# Altium schematic symbol library Maxim Amplifiers and Comparators.SchLib: 420 symbols (part 16 of 16)
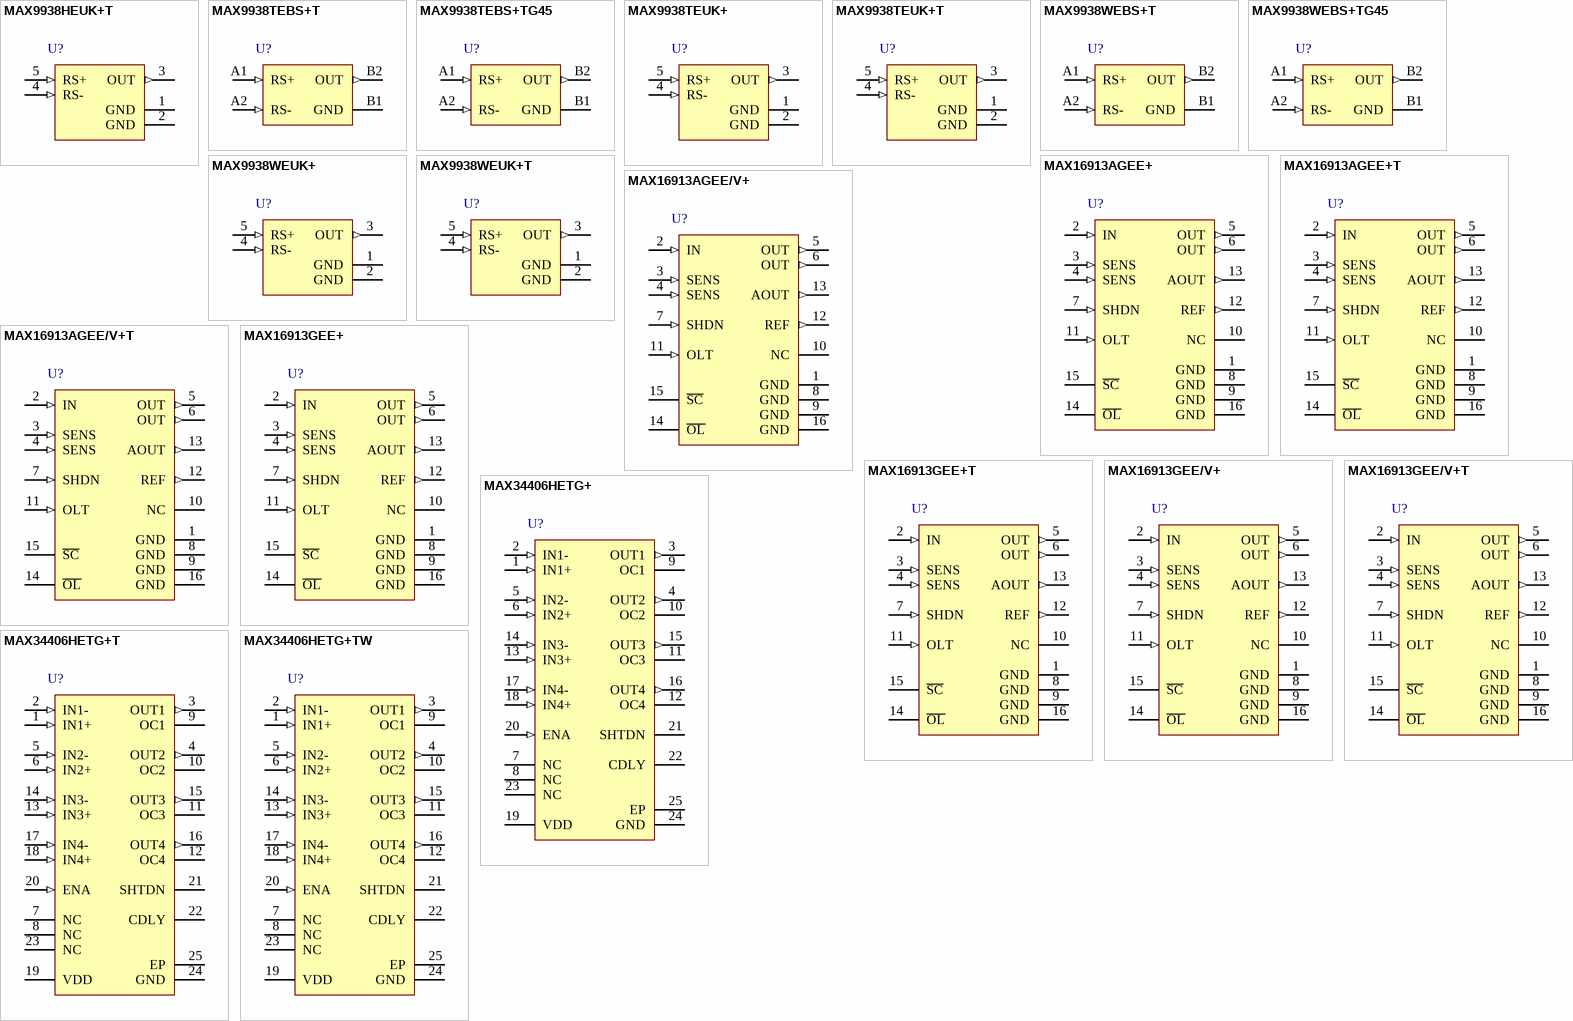
[diagram p25: symbols MAX9938HEUK+T to MAX34406HETG+TW]

## MAX9938HEUK+T
designator U?
1 uA, 4-Bump, Precision Current-Sense Amplifier, 100 V / V Gain, -40 to 85 degC, 5-Pin SOT23 (U5+2), Pb-Free, Tape and Reel; PartNumber: MAX9938HEUK+T; Bi-Dir. Curr. Sense: No; Gain: 25 V/V, 50 V/V ,100 V/V ,200 V/V; DatasheetVersion: Rev. 6; PackageVersion: Rev. G, 04/2011; PackageReference: U5+2; PackageDescription: 5-Pin Small-Outline Transistor Package, Body 1.625 x 2.9 mm, Pitch 0.95 mm; Supplier 1: Digi-Key; Supplier Part Number 1: MAX9938HEUK+TTR-ND; Supplier 2: Digi-Key; Supplier Part Number 2: MAX9938HEUK+TCT-ND; Supplier 3: Digi-Key; Supplier Part Number 3: MAX9938HEUK+TDKR-ND; Supplier 4: Mouser; Supplier Part Number 4: 700-MAX9938HEUK+T; Mounting Technology: Surface Mount; Code_JEDEC: MO178; ComponentLink1Description: Manufacturer URL; ComponentLink1URL: http://www.maximintegrated.com/; ComponentLink2Description: Datasheet; ComponentLink2URL: http://datasheets.maximintegrated.com/en/ds/MAX9938.pdf; ComponentLink3Description: Package Specification; ComponentLink3URL: http://pdfserv.maximintegrated.com/package_dwgs/21-0057.PDF
footprint MAXM-U5+2_N (SOT23, 5-Leads, Body 2.9x1.625mm, Pitch 0.95mm, IPC Medium Density)
footprint MAXM-U5+2_L (SOT23, 5-Leads, Body 2.9x1.625mm, Pitch 0.95mm, IPC High Density)
footprint MAXM-U5+2_M (SOT23, 5-Leads, Body 2.9x1.625mm, Pitch 0.95mm, IPC Low Density)
pins: 1 GND (power) "Ground", 2 GND (power) "Ground", 3 OUT (out) "Output", 4 RS- (in) "Load- Side Connection to External Sense Resistor", 5 RS+ (in) "Power-Side Connection to External Sense Resistor"

## MAX9938TEBS+T
designator U?
1 uA, 4-Bump, Precision Current-Sense Amplifier, 25 V / V Gain, -40 to 85 degC, 4-Pin BGA (B4+1), Pb-Free, Tape and Reel; PartNumber: MAX9938TEBS+T; Bi-Dir. Curr. Sense: No; Gain: 25 V/V, 50 V/V ,100 V/V ,200 V/V; DatasheetVersion: Rev. 6; PackageVersion: Rev. I, 03/2011; PackageReference: B4+1; PackageDescription: 4-Pin Ultra Chip-Scale Package, Body 1 x 1 mm, Pitch 0.5 mm; Supplier 1: Digi-Key; Supplier Part Number 1: MAX9938TEBS+T-ND; Supplier 2: Newark; Supplier Part Number 2: 01N6736; Supplier 3: Mouser; Supplier Part Number 3: 700-MAX9938TEBS+T; Mounting Technology: Surface Mount; ComponentLink1Description: Manufacturer URL; ComponentLink1URL: http://www.maximintegrated.com/; ComponentLink2Description: Datasheet; ComponentLink2URL: http://datasheets.maximintegrated.com/en/ds/MAX9938.pdf; ComponentLink3Description: Package Specification; ComponentLink3URL: http://pdfserv.maximintegrated.com/package_dwgs/21-0117.PDF
footprint MAXM-B4+1 (BGA, 4-Balls, Body 1x1mm, Pitch 0.5mm)
pins: A1 RS+ (in) "External Sense Resistor Power-Side Connection", A2 RS- (in) "External Sense Resistor Load-Side Connection", B1 GND (power) "Ground", B2 OUT (out) "Output Voltage. VOUT is proportional to VSENSE = VRS+ - VRS-."

## MAX9938TEBS+TG45
designator U?
1 uA, 4-Bump, Precision Current-Sense Amplifier, 25 V / V Gain, -40 to 85 degC, 4-Pin BGA (B4+1), Pb-Free, Tape and Reel; PartNumber: MAX9938TEBS+TG45; Bi-Dir. Curr. Sense: No; Gain: 25 V/V, 50 V/V ,100 V/V ,200 V/V; DatasheetVersion: Rev. 6; PackageVersion: Rev. I, 03/2011; PackageReference: B4+1; PackageDescription: 4-Pin Ultra Chip-Scale Package, Body 1 x 1 mm, Pitch 0.5 mm; Supplier 1: Digi-Key; Supplier Part Number 1: MAX9938TEBS+TG45-ND; Supplier 2: Mouser; Supplier Part Number 2: 700-MAX9938TEBS+TG45; Mounting Technology: Surface Mount; ComponentLink1Description: Manufacturer URL; ComponentLink1URL: http://www.maximintegrated.com/; ComponentLink2Description: Datasheet; ComponentLink2URL: http://datasheets.maximintegrated.com/en/ds/MAX9938.pdf; ComponentLink3Description: Package Specification; ComponentLink3URL: http://pdfserv.maximintegrated.com/package_dwgs/21-0117.PDF
footprint MAXM-B4+1 (BGA, 4-Balls, Body 1x1mm, Pitch 0.5mm)
pins: A1 RS+ (in) "External Sense Resistor Power-Side Connection", A2 RS- (in) "External Sense Resistor Load-Side Connection", B1 GND (power) "Ground", B2 OUT (out) "Output Voltage. VOUT is proportional to VSENSE = VRS+ - VRS-."

## MAX9938TEUK+
designator U?
1 uA, 4-Bump, Precision Current-Sense Amplifier, 25 V / V Gain, -40 to 85 degC, 5-Pin SOT23 (U5+2), Pb-Free; PartNumber: MAX9938TEUK+; Bi-Dir. Curr. Sense: No; Gain: 25 V/V, 50 V/V ,100 V/V ,200 V/V; DatasheetVersion: Rev. 6; PackageVersion: Rev. G, 04/2011; PackageReference: U5+2; PackageDescription: 5-Pin Small-Outline Transistor Package, Body 1.625 x 2.9 mm, Pitch 0.95 mm; Supplier 1: Mouser; Supplier Part Number 1: N/A; Mounting Technology: Surface Mount; Code_JEDEC: MO178; ComponentLink1Description: Manufacturer URL; ComponentLink1URL: http://www.maximintegrated.com/; ComponentLink2Description: Datasheet; ComponentLink2URL: http://datasheets.maximintegrated.com/en/ds/MAX9938.pdf; ComponentLink3Description: Package Specification; ComponentLink3URL: http://pdfserv.maximintegrated.com/package_dwgs/21-0057.PDF
footprint MAXM-U5+2_N (SOT23, 5-Leads, Body 2.9x1.625mm, Pitch 0.95mm, IPC Medium Density)
footprint MAXM-U5+2_L (SOT23, 5-Leads, Body 2.9x1.625mm, Pitch 0.95mm, IPC High Density)
footprint MAXM-U5+2_M (SOT23, 5-Leads, Body 2.9x1.625mm, Pitch 0.95mm, IPC Low Density)
pins: 1 GND (power) "Ground", 2 GND (power) "Ground", 3 OUT (out) "Output", 4 RS- (in) "Load- Side Connection to External Sense Resistor", 5 RS+ (in) "Power-Side Connection to External Sense Resistor"

## MAX9938TEUK+T
designator U?
1 uA, 4-Bump, Precision Current-Sense Amplifier, 25 V / V Gain, -40 to 85 degC, 5-Pin SOT23 (U5+2), Pb-Free, Tape and Reel; PartNumber: MAX9938TEUK+T; Bi-Dir. Curr. Sense: No; Gain: 25 V/V, 50 V/V ,100 V/V ,200 V/V; DatasheetVersion: Rev. 6; PackageVersion: Rev. G, 04/2011; PackageReference: U5+2; PackageDescription: 5-Pin Small-Outline Transistor Package, Body 1.625 x 2.9 mm, Pitch 0.95 mm; Supplier 1: Digi-Key; Supplier Part Number 1: MAX9938TEUK+TTR-ND; Supplier 2: Digi-Key; Supplier Part Number 2: MAX9938TEUK+TCT-ND; Supplier 3: Digi-Key; Supplier Part Number 3: MAX9938TEUK+TDKR-ND; Supplier 4: Mouser; Supplier Part Number 4: 700-MAX9938TEUK+T; Mounting Technology: Surface Mount; Code_JEDEC: MO178; ComponentLink1Description: Manufacturer URL; ComponentLink1URL: http://www.maximintegrated.com/; ComponentLink2Description: Datasheet; ComponentLink2URL: http://datasheets.maximintegrated.com/en/ds/MAX9938.pdf; ComponentLink3Description: Package Specification; ComponentLink3URL: http://pdfserv.maximintegrated.com/package_dwgs/21-0057.PDF
footprint MAXM-U5+2_N (SOT23, 5-Leads, Body 2.9x1.625mm, Pitch 0.95mm, IPC Medium Density)
footprint MAXM-U5+2_L (SOT23, 5-Leads, Body 2.9x1.625mm, Pitch 0.95mm, IPC High Density)
footprint MAXM-U5+2_M (SOT23, 5-Leads, Body 2.9x1.625mm, Pitch 0.95mm, IPC Low Density)
pins: 1 GND (power) "Ground", 2 GND (power) "Ground", 3 OUT (out) "Output", 4 RS- (in) "Load- Side Connection to External Sense Resistor", 5 RS+ (in) "Power-Side Connection to External Sense Resistor"

## MAX9938WEBS+T
designator U?
1 uA, 4-Bump, Precision Current-Sense Amplifier, 200 V / V Gain, -40 to 85 degC, 4-Pin BGA (B4+1), Pb-Free, Tape and Reel; PartNumber: MAX9938WEBS+T; Bi-Dir. Curr. Sense: No; Gain: 25 V/V, 50 V/V ,100 V/V ,200 V/V; DatasheetVersion: Rev. 6; PackageVersion: Rev. I, 03/2011; PackageReference: B4+1; PackageDescription: 4-Pin Ultra Chip-Scale Package, Body 1 x 1 mm, Pitch 0.5 mm; Supplier 1: Mouser; Supplier Part Number 1: N/A; Mounting Technology: Surface Mount; ComponentLink1Description: Manufacturer URL; ComponentLink1URL: http://www.maximintegrated.com/; ComponentLink2Description: Datasheet; ComponentLink2URL: http://datasheets.maximintegrated.com/en/ds/MAX9938.pdf; ComponentLink3Description: Package Specification; ComponentLink3URL: http://pdfserv.maximintegrated.com/package_dwgs/21-0117.PDF
footprint MAXM-B4+1 (BGA, 4-Balls, Body 1x1mm, Pitch 0.5mm)
pins: A1 RS+ (in) "External Sense Resistor Power-Side Connection", A2 RS- (in) "External Sense Resistor Load-Side Connection", B1 GND (power) "Ground", B2 OUT (out) "Output Voltage. VOUT is proportional to VSENSE = VRS+ - VRS-."

## MAX9938WEBS+TG45
designator U?
1 uA, 4-Bump, Precision Current-Sense Amplifier, 200 V / V Gain, -40 to 85 degC, 4-Pin BGA (B4+1), Pb-Free, Tape and Reel; PartNumber: MAX9938WEBS+TG45; Bi-Dir. Curr. Sense: No; Gain: 25 V/V, 50 V/V ,100 V/V ,200 V/V; DatasheetVersion: Rev. 6; PackageVersion: Rev. I, 03/2011; PackageReference: B4+1; PackageDescription: 4-Pin Ultra Chip-Scale Package, Body 1 x 1 mm, Pitch 0.5 mm; Supplier 1: Mouser; Supplier Part Number 1: N/A; Mounting Technology: Surface Mount; ComponentLink1Description: Manufacturer URL; ComponentLink1URL: http://www.maximintegrated.com/; ComponentLink2Description: Datasheet; ComponentLink2URL: http://datasheets.maximintegrated.com/en/ds/MAX9938.pdf; ComponentLink3Description: Package Specification; ComponentLink3URL: http://pdfserv.maximintegrated.com/package_dwgs/21-0117.PDF
footprint MAXM-B4+1 (BGA, 4-Balls, Body 1x1mm, Pitch 0.5mm)
pins: A1 RS+ (in) "External Sense Resistor Power-Side Connection", A2 RS- (in) "External Sense Resistor Load-Side Connection", B1 GND (power) "Ground", B2 OUT (out) "Output Voltage. VOUT is proportional to VSENSE = VRS+ - VRS-."

## MAX9938WEUK+
designator U?
1 uA, 4-Bump, Precision Current-Sense Amplifier, 200 V / V Gain, -40 to 85 degC, 5-Pin SOT23 (U5+2), Pb-Free; PartNumber: MAX9938WEUK+; Bi-Dir. Curr. Sense: No; Gain: 25 V/V, 50 V/V ,100 V/V ,200 V/V; DatasheetVersion: Rev. 6; PackageVersion: Rev. G, 04/2011; PackageReference: U5+2; PackageDescription: 5-Pin Small-Outline Transistor Package, Body 1.625 x 2.9 mm, Pitch 0.95 mm; Supplier 1: Mouser; Supplier Part Number 1: N/A; Mounting Technology: Surface Mount; Code_JEDEC: MO178; ComponentLink1Description: Manufacturer URL; ComponentLink1URL: http://www.maximintegrated.com/; ComponentLink2Description: Datasheet; ComponentLink2URL: http://datasheets.maximintegrated.com/en/ds/MAX9938.pdf; ComponentLink3Description: Package Specification; ComponentLink3URL: http://pdfserv.maximintegrated.com/package_dwgs/21-0057.PDF
footprint MAXM-U5+2_N (SOT23, 5-Leads, Body 2.9x1.625mm, Pitch 0.95mm, IPC Medium Density)
footprint MAXM-U5+2_L (SOT23, 5-Leads, Body 2.9x1.625mm, Pitch 0.95mm, IPC High Density)
footprint MAXM-U5+2_M (SOT23, 5-Leads, Body 2.9x1.625mm, Pitch 0.95mm, IPC Low Density)
pins: 1 GND (power) "Ground", 2 GND (power) "Ground", 3 OUT (out) "Output", 4 RS- (in) "Load- Side Connection to External Sense Resistor", 5 RS+ (in) "Power-Side Connection to External Sense Resistor"

## MAX9938WEUK+T
designator U?
1 uA, 4-Bump, Precision Current-Sense Amplifier, 200 V / V Gain, -40 to 85 degC, 5-Pin SOT23 (U5+2), Pb-Free, Tape and Reel; PartNumber: MAX9938WEUK+T; Bi-Dir. Curr. Sense: No; Gain: 25 V/V, 50 V/V ,100 V/V ,200 V/V; DatasheetVersion: Rev. 6; PackageVersion: Rev. G, 04/2011; PackageReference: U5+2; PackageDescription: 5-Pin Small-Outline Transistor Package, Body 1.625 x 2.9 mm, Pitch 0.95 mm; Supplier 1: Digi-Key; Supplier Part Number 1: MAX9938WEUK+T-ND; Supplier 2: Mouser; Supplier Part Number 2: 700-MAX9938WEUK+T; Mounting Technology: Surface Mount; Code_JEDEC: MO178; ComponentLink1Description: Manufacturer URL; ComponentLink1URL: http://www.maximintegrated.com/; ComponentLink2Description: Datasheet; ComponentLink2URL: http://datasheets.maximintegrated.com/en/ds/MAX9938.pdf; ComponentLink3Description: Package Specification; ComponentLink3URL: http://pdfserv.maximintegrated.com/package_dwgs/21-0057.PDF
footprint MAXM-U5+2_N (SOT23, 5-Leads, Body 2.9x1.625mm, Pitch 0.95mm, IPC Medium Density)
footprint MAXM-U5+2_L (SOT23, 5-Leads, Body 2.9x1.625mm, Pitch 0.95mm, IPC High Density)
footprint MAXM-U5+2_M (SOT23, 5-Leads, Body 2.9x1.625mm, Pitch 0.95mm, IPC Low Density)
pins: 1 GND (power) "Ground", 2 GND (power) "Ground", 3 OUT (out) "Output", 4 RS- (in) "Load- Side Connection to External Sense Resistor", 5 RS+ (in) "Power-Side Connection to External Sense Resistor"

## MAX16913AGEE+
designator U?
Remote Antenna Current-Sense Amplifier and Switch, 13 V / V Gain, -40 to 105 degC, 16-Pin SOP (E16+8F), Pb-Free; PartNumber: MAX16913AGEE+; Bi-Dir. Curr. Sense: No; Gain: 13 V/V; Industry Qualified: Automotive - AECQ100, Automotive - General; DatasheetVersion: Rev. 0; PackageVersion: Rev. K, 04/2012; PackageReference: E16+8F; PackageDescription: 16-Pin Quarter Small-Outline Package, Body 3.9 x 4.89 mm, Pitch 0.635 mm; Supplier 1: Digi-Key; Supplier Part Number 1: MAX16913AGEE+-ND; Supplier 2: Mouser; Supplier Part Number 2: N/A; Mounting Technology: Surface Mount; Code_JEDEC: MO-137; ComponentLink1Description: Manufacturer URL; ComponentLink1URL: http://www.maximintegrated.com/; ComponentLink2Description: Datasheet; ComponentLink2URL: http://datasheets.maximintegrated.com/en/ds/MAX16913-MAX16913A.pdf; ComponentLink3Description: Package Specification; ComponentLink3URL: http://pdfserv.maximintegrated.com/package_dwgs/21-0055.PDF
footprint MAXM-E16+8F_N (SOP, 16-Leads, Body 4.89x3.9mm, Pitch 0.635mm, IPC Medium Density)
footprint MAXM-E16+8F_L (SOP, 16-Leads, Body 4.89x3.9mm, Pitch 0.635mm, IPC High Density)
footprint MAXM-E16+8F_M (SOP, 16-Leads, Body 4.89x3.9mm, Pitch 0.635mm, IPC Low Density)
pins: 1 GND (power) "Ground", 2 IN (in) "Input Voltage. Bypass IN to GND with a low-ESR ceramic capacitor with a minimum value of 0.1uF.", 3 SENS (in) "Input to Current-Sense Amplifier. Connect the sense resistor between SENS and IN.", 4 SENS (in) "Input to Current-Sense Amplifier. Connect the sense resistor between SENS and IN.", 5 OUT (out) "Switch Output", 6 OUT (out) "Switch Output", 7 SHDN (in) "Active-High Control Input. Drive SHDN low to turn on the device.", 8 GND (power) "Ground", 9 GND (power) "Ground", 10 NC "No Connection. Not internally connected.", 11 OLT (in) "Open-Load Threshold Setting Input. A resistive divider between REF, OLT, and GND sets the open-load current threshold (MAX16913A). For the MAX16913, connect OLT to GND.", 12 REF (out) "+3V Nominal Reference Output. Use a resistive divider between REF, OLT, and ground to set the open-load current threshold (MAX16913A). The output impedance of this voltage regulator is 5k ohm.", 13 AOUT (out) "Current-Monitor Voltage Output. AOUT can be used to measure the load current by means of an external ADC. The output impedance is 5k ohm.", 14 ~{OL} (oc) "Open-Drain Open-Load Indicator Output. O\L\ goes low when the load current is lower than the open-load current threshold, or when there is a short-to-battery fault. Connect O\L\ to a 10k ohm pullup resistor. See Table 1.", 15 ~{SC} (oc) "Open-Drain Short-Circuit Indicator Output. S\C\ goes low when the load current is greater than the short-circuit current threshold or when there is a short-to-battery fault. Connect S\C\ to a 10k ohm pullup resistor. See (See Datasheet)", 16 GND (power) "Ground"

## MAX16913AGEE+T
designator U?
Remote Antenna Current-Sense Amplifier and Switch, 13 V / V Gain, -40 to 105 degC, 16-Pin SOP (E16+8F), Pb-Free, Tape and Reel; PartNumber: MAX16913AGEE+T; Bi-Dir. Curr. Sense: No; Gain: 13 V/V; Industry Qualified: Automotive - AECQ100, Automotive - General; DatasheetVersion: Rev. 0; PackageVersion: Rev. K, 04/2012; PackageReference: E16+8F; PackageDescription: 16-Pin Quarter Small-Outline Package, Body 3.9 x 4.89 mm, Pitch 0.635 mm; Supplier 1: Digi-Key; Supplier Part Number 1: MAX16913AGEE+T-ND; Supplier 2: Mouser; Supplier Part Number 2: N/A; Mounting Technology: Surface Mount; Code_JEDEC: MO-137; ComponentLink1Description: Manufacturer URL; ComponentLink1URL: http://www.maximintegrated.com/; ComponentLink2Description: Datasheet; ComponentLink2URL: http://datasheets.maximintegrated.com/en/ds/MAX16913-MAX16913A.pdf; ComponentLink3Description: Package Specification; ComponentLink3URL: http://pdfserv.maximintegrated.com/package_dwgs/21-0055.PDF
footprint MAXM-E16+8F_N (SOP, 16-Leads, Body 4.89x3.9mm, Pitch 0.635mm, IPC Medium Density)
footprint MAXM-E16+8F_L (SOP, 16-Leads, Body 4.89x3.9mm, Pitch 0.635mm, IPC High Density)
footprint MAXM-E16+8F_M (SOP, 16-Leads, Body 4.89x3.9mm, Pitch 0.635mm, IPC Low Density)
pins: 1 GND (power) "Ground", 2 IN (in) "Input Voltage. Bypass IN to GND with a low-ESR ceramic capacitor with a minimum value of 0.1uF.", 3 SENS (in) "Input to Current-Sense Amplifier. Connect the sense resistor between SENS and IN.", 4 SENS (in) "Input to Current-Sense Amplifier. Connect the sense resistor between SENS and IN.", 5 OUT (out) "Switch Output", 6 OUT (out) "Switch Output", 7 SHDN (in) "Active-High Control Input. Drive SHDN low to turn on the device.", 8 GND (power) "Ground", 9 GND (power) "Ground", 10 NC "No Connection. Not internally connected.", 11 OLT (in) "Open-Load Threshold Setting Input. A resistive divider between REF, OLT, and GND sets the open-load current threshold (MAX16913A). For the MAX16913, connect OLT to GND.", 12 REF (out) "+3V Nominal Reference Output. Use a resistive divider between REF, OLT, and ground to set the open-load current threshold (MAX16913A). The output impedance of this voltage regulator is 5k ohm.", 13 AOUT (out) "Current-Monitor Voltage Output. AOUT can be used to measure the load current by means of an external ADC. The output impedance is 5k ohm.", 14 ~{OL} (oc) "Open-Drain Open-Load Indicator Output. O\L\ goes low when the load current is lower than the open-load current threshold, or when there is a short-to-battery fault. Connect O\L\ to a 10k ohm pullup resistor. See Table 1.", 15 ~{SC} (oc) "Open-Drain Short-Circuit Indicator Output. S\C\ goes low when the load current is greater than the short-circuit current threshold or when there is a short-to-battery fault. Connect S\C\ to a 10k ohm pullup resistor. See (See Datasheet)", 16 GND (power) "Ground"

## MAX16913AGEE/V+
designator U?
Remote Antenna Current-Sense Amplifier and Switch, 13 V / V Gain, -40 to 105 degC, 16-Pin SOP (E16+8F), Pb-Free; PartNumber: MAX16913AGEE/V+; Bi-Dir. Curr. Sense: No; Gain: 13 V/V; Industry Qualified: Automotive - AECQ100, Automotive - General; DatasheetVersion: Rev. 0; PackageVersion: Rev. K, 04/2012; PackageReference: E16+8F; PackageDescription: 16-Pin Quarter Small-Outline Package, Body 3.9 x 4.89 mm, Pitch 0.635 mm; Supplier 1: Digi-Key; Supplier Part Number 1: MAX16913AGEE/V+-ND; Supplier 2: Farnell; Supplier Part Number 2: 1813102; Supplier 3: Mouser; Supplier Part Number 3: 700-MAX16913AGEEV; Mounting Technology: Surface Mount; Code_JEDEC: MO-137; ComponentLink1Description: Manufacturer URL; ComponentLink1URL: http://www.maximintegrated.com/; ComponentLink2Description: Datasheet; ComponentLink2URL: http://datasheets.maximintegrated.com/en/ds/MAX16913-MAX16913A.pdf; ComponentLink3Description: Package Specification; ComponentLink3URL: http://pdfserv.maximintegrated.com/package_dwgs/21-0055.PDF
footprint MAXM-E16+8F_N (SOP, 16-Leads, Body 4.89x3.9mm, Pitch 0.635mm, IPC Medium Density)
footprint MAXM-E16+8F_L (SOP, 16-Leads, Body 4.89x3.9mm, Pitch 0.635mm, IPC High Density)
footprint MAXM-E16+8F_M (SOP, 16-Leads, Body 4.89x3.9mm, Pitch 0.635mm, IPC Low Density)
pins: 1 GND (power) "Ground", 2 IN (in) "Input Voltage. Bypass IN to GND with a low-ESR ceramic capacitor with a minimum value of 0.1uF.", 3 SENS (in) "Input to Current-Sense Amplifier. Connect the sense resistor between SENS and IN.", 4 SENS (in) "Input to Current-Sense Amplifier. Connect the sense resistor between SENS and IN.", 5 OUT (out) "Switch Output", 6 OUT (out) "Switch Output", 7 SHDN (in) "Active-High Control Input. Drive SHDN low to turn on the device.", 8 GND (power) "Ground", 9 GND (power) "Ground", 10 NC "No Connection. Not internally connected.", 11 OLT (in) "Open-Load Threshold Setting Input. A resistive divider between REF, OLT, and GND sets the open-load current threshold (MAX16913A). For the MAX16913, connect OLT to GND.", 12 REF (out) "+3V Nominal Reference Output. Use a resistive divider between REF, OLT, and ground to set the open-load current threshold (MAX16913A). The output impedance of this voltage regulator is 5k ohm.", 13 AOUT (out) "Current-Monitor Voltage Output. AOUT can be used to measure the load current by means of an external ADC. The output impedance is 5k ohm.", 14 ~{OL} (oc) "Open-Drain Open-Load Indicator Output. O\L\ goes low when the load current is lower than the open-load current threshold, or when there is a short-to-battery fault. Connect O\L\ to a 10k ohm pullup resistor. See Table 1.", 15 ~{SC} (oc) "Open-Drain Short-Circuit Indicator Output. S\C\ goes low when the load current is greater than the short-circuit current threshold or when there is a short-to-battery fault. Connect S\C\ to a 10k ohm pullup resistor. See (See Datasheet)", 16 GND (power) "Ground"

## MAX16913AGEE/V+T
designator U?
Remote Antenna Current-Sense Amplifier and Switch, 13 V / V Gain, -40 to 105 degC, 16-Pin SOP (E16+8F), Pb-Free, Tape and Reel; PartNumber: MAX16913AGEE/V+T; Bi-Dir. Curr. Sense: No; Gain: 13 V/V; Industry Qualified: Automotive - AECQ100, Automotive - General; DatasheetVersion: Rev. 0; PackageVersion: Rev. K, 04/2012; PackageReference: E16+8F; PackageDescription: 16-Pin Quarter Small-Outline Package, Body 3.9 x 4.89 mm, Pitch 0.635 mm; Supplier 1: Digi-Key; Supplier Part Number 1: MAX16913AGEE/V+T-ND; Supplier 2: Mouser; Supplier Part Number 2: 700-MAX16913AGEE/V+T; Mounting Technology: Surface Mount; Code_JEDEC: MO-137; ComponentLink1Description: Manufacturer URL; ComponentLink1URL: http://www.maximintegrated.com/; ComponentLink2Description: Datasheet; ComponentLink2URL: http://datasheets.maximintegrated.com/en/ds/MAX16913-MAX16913A.pdf; ComponentLink3Description: Package Specification; ComponentLink3URL: http://pdfserv.maximintegrated.com/package_dwgs/21-0055.PDF
footprint MAXM-E16+8F_N (SOP, 16-Leads, Body 4.89x3.9mm, Pitch 0.635mm, IPC Medium Density)
footprint MAXM-E16+8F_L (SOP, 16-Leads, Body 4.89x3.9mm, Pitch 0.635mm, IPC High Density)
footprint MAXM-E16+8F_M (SOP, 16-Leads, Body 4.89x3.9mm, Pitch 0.635mm, IPC Low Density)
pins: 1 GND (power) "Ground", 2 IN (in) "Input Voltage. Bypass IN to GND with a low-ESR ceramic capacitor with a minimum value of 0.1uF.", 3 SENS (in) "Input to Current-Sense Amplifier. Connect the sense resistor between SENS and IN.", 4 SENS (in) "Input to Current-Sense Amplifier. Connect the sense resistor between SENS and IN.", 5 OUT (out) "Switch Output", 6 OUT (out) "Switch Output", 7 SHDN (in) "Active-High Control Input. Drive SHDN low to turn on the device.", 8 GND (power) "Ground", 9 GND (power) "Ground", 10 NC "No Connection. Not internally connected.", 11 OLT (in) "Open-Load Threshold Setting Input. A resistive divider between REF, OLT, and GND sets the open-load current threshold (MAX16913A). For the MAX16913, connect OLT to GND.", 12 REF (out) "+3V Nominal Reference Output. Use a resistive divider between REF, OLT, and ground to set the open-load current threshold (MAX16913A). The output impedance of this voltage regulator is 5k ohm.", 13 AOUT (out) "Current-Monitor Voltage Output. AOUT can be used to measure the load current by means of an external ADC. The output impedance is 5k ohm.", 14 ~{OL} (oc) "Open-Drain Open-Load Indicator Output. O\L\ goes low when the load current is lower than the open-load current threshold, or when there is a short-to-battery fault. Connect O\L\ to a 10k ohm pullup resistor. See Table 1.", 15 ~{SC} (oc) "Open-Drain Short-Circuit Indicator Output. S\C\ goes low when the load current is greater than the short-circuit current threshold or when there is a short-to-battery fault. Connect S\C\ to a 10k ohm pullup resistor. See (See Datasheet)", 16 GND (power) "Ground"

## MAX16913GEE+
designator U?
Remote Antenna Current-Sense Amplifier and Switch, 13 V / V Gain, -40 to 105 degC, 16-Pin SOP (E16+8F), Pb-Free; PartNumber: MAX16913GEE+; Bi-Dir. Curr. Sense: No; Gain: 13 V/V; Industry Qualified: Automotive - AECQ100, Automotive - General; DatasheetVersion: Rev. 0; PackageVersion: Rev. K, 04/2012; PackageReference: E16+8F; PackageDescription: 16-Pin Quarter Small-Outline Package, Body 3.9 x 4.89 mm, Pitch 0.635 mm; Supplier 1: Digi-Key; Supplier Part Number 1: MAX16913GEE+-ND; Supplier 2: Mouser; Supplier Part Number 2: N/A; Mounting Technology: Surface Mount; Code_JEDEC: MO-137; ComponentLink1Description: Manufacturer URL; ComponentLink1URL: http://www.maximintegrated.com/; ComponentLink2Description: Datasheet; ComponentLink2URL: http://datasheets.maximintegrated.com/en/ds/MAX16913-MAX16913A.pdf; ComponentLink3Description: Package Specification; ComponentLink3URL: http://pdfserv.maximintegrated.com/package_dwgs/21-0055.PDF
footprint MAXM-E16+8F_N (SOP, 16-Leads, Body 4.89x3.9mm, Pitch 0.635mm, IPC Medium Density)
footprint MAXM-E16+8F_L (SOP, 16-Leads, Body 4.89x3.9mm, Pitch 0.635mm, IPC High Density)
footprint MAXM-E16+8F_M (SOP, 16-Leads, Body 4.89x3.9mm, Pitch 0.635mm, IPC Low Density)
pins: 1 GND (power) "Ground", 2 IN (in) "Input Voltage. Bypass IN to GND with a low-ESR ceramic capacitor with a minimum value of 0.1uF.", 3 SENS (in) "Input to Current-Sense Amplifier. Connect the sense resistor between SENS and IN.", 4 SENS (in) "Input to Current-Sense Amplifier. Connect the sense resistor between SENS and IN.", 5 OUT (out) "Switch Output", 6 OUT (out) "Switch Output", 7 SHDN (in) "Active-High Control Input. Drive SHDN low to turn on the device.", 8 GND (power) "Ground", 9 GND (power) "Ground", 10 NC "No Connection. Not internally connected.", 11 OLT (in) "Open-Load Threshold Setting Input. A resistive divider between REF, OLT, and GND sets the open-load current threshold (MAX16913A). For the MAX16913, connect OLT to GND.", 12 REF (out) "+3V Nominal Reference Output. Use a resistive divider between REF, OLT, and ground to set the open-load current threshold (MAX16913A). The output impedance of this voltage regulator is 5k ohm.", 13 AOUT (out) "Current-Monitor Voltage Output. AOUT can be used to measure the load current by means of an external ADC. The output impedance is 5k ohm.", 14 ~{OL} (oc) "Open-Drain Open-Load Indicator Output. O\L\ goes low when the load current is lower than the open-load current threshold, or when there is a short-to-battery fault. Connect O\L\ to a 10k ohm pullup resistor. See Table 1.", 15 ~{SC} (oc) "Open-Drain Short-Circuit Indicator Output. S\C\ goes low when the load current is greater than the short-circuit current threshold or when there is a short-to-battery fault. Connect S\C\ to a 10k ohm pullup resistor. See (See Datasheet)", 16 GND (power) "Ground"

## MAX16913GEE+T
designator U?
Remote Antenna Current-Sense Amplifier and Switch, 13 V / V Gain, -40 to 105 degC, 16-Pin SOP (E16+8F), Pb-Free, Tape and Reel; PartNumber: MAX16913GEE+T; Bi-Dir. Curr. Sense: No; Gain: 13 V/V; Industry Qualified: Automotive - AECQ100, Automotive - General; DatasheetVersion: Rev. 0; PackageVersion: Rev. K, 04/2012; PackageReference: E16+8F; PackageDescription: 16-Pin Quarter Small-Outline Package, Body 3.9 x 4.89 mm, Pitch 0.635 mm; Supplier 1: Digi-Key; Supplier Part Number 1: MAX16913GEE+T-ND; Supplier 2: Mouser; Supplier Part Number 2: N/A; Mounting Technology: Surface Mount; Code_JEDEC: MO-137; ComponentLink1Description: Manufacturer URL; ComponentLink1URL: http://www.maximintegrated.com/; ComponentLink2Description: Datasheet; ComponentLink2URL: http://datasheets.maximintegrated.com/en/ds/MAX16913-MAX16913A.pdf; ComponentLink3Description: Package Specification; ComponentLink3URL: http://pdfserv.maximintegrated.com/package_dwgs/21-0055.PDF
footprint MAXM-E16+8F_N (SOP, 16-Leads, Body 4.89x3.9mm, Pitch 0.635mm, IPC Medium Density)
footprint MAXM-E16+8F_L (SOP, 16-Leads, Body 4.89x3.9mm, Pitch 0.635mm, IPC High Density)
footprint MAXM-E16+8F_M (SOP, 16-Leads, Body 4.89x3.9mm, Pitch 0.635mm, IPC Low Density)
pins: 1 GND (power) "Ground", 2 IN (in) "Input Voltage. Bypass IN to GND with a low-ESR ceramic capacitor with a minimum value of 0.1uF.", 3 SENS (in) "Input to Current-Sense Amplifier. Connect the sense resistor between SENS and IN.", 4 SENS (in) "Input to Current-Sense Amplifier. Connect the sense resistor between SENS and IN.", 5 OUT (out) "Switch Output", 6 OUT (out) "Switch Output", 7 SHDN (in) "Active-High Control Input. Drive SHDN low to turn on the device.", 8 GND (power) "Ground", 9 GND (power) "Ground", 10 NC "No Connection. Not internally connected.", 11 OLT (in) "Open-Load Threshold Setting Input. A resistive divider between REF, OLT, and GND sets the open-load current threshold (MAX16913A). For the MAX16913, connect OLT to GND.", 12 REF (out) "+3V Nominal Reference Output. Use a resistive divider between REF, OLT, and ground to set the open-load current threshold (MAX16913A). The output impedance of this voltage regulator is 5k ohm.", 13 AOUT (out) "Current-Monitor Voltage Output. AOUT can be used to measure the load current by means of an external ADC. The output impedance is 5k ohm.", 14 ~{OL} (oc) "Open-Drain Open-Load Indicator Output. O\L\ goes low when the load current is lower than the open-load current threshold, or when there is a short-to-battery fault. Connect O\L\ to a 10k ohm pullup resistor. See Table 1.", 15 ~{SC} (oc) "Open-Drain Short-Circuit Indicator Output. S\C\ goes low when the load current is greater than the short-circuit current threshold or when there is a short-to-battery fault. Connect S\C\ to a 10k ohm pullup resistor. See (See Datasheet)", 16 GND (power) "Ground"

## MAX16913GEE/V+
designator U?
Remote Antenna Current-Sense Amplifier and Switch, 13 V / V Gain, -40 to 105 degC, 16-Pin SOP (E16+8F), Pb-Free; PartNumber: MAX16913GEE/V+; Bi-Dir. Curr. Sense: No; Gain: 13 V/V; Industry Qualified: Automotive - AECQ100, Automotive - General; DatasheetVersion: Rev. 0; PackageVersion: Rev. K, 04/2012; PackageReference: E16+8F; PackageDescription: 16-Pin Quarter Small-Outline Package, Body 3.9 x 4.89 mm, Pitch 0.635 mm; Supplier 1: Digi-Key; Supplier Part Number 1: MAX16913GEE/V+-ND; Supplier 2: Farnell; Supplier Part Number 2: 1813103; Supplier 3: Mouser; Supplier Part Number 3: 700-MAX16913GEEV; Mounting Technology: Surface Mount; Code_JEDEC: MO-137; ComponentLink1Description: Manufacturer URL; ComponentLink1URL: http://www.maximintegrated.com/; ComponentLink2Description: Datasheet; ComponentLink2URL: http://datasheets.maximintegrated.com/en/ds/MAX16913-MAX16913A.pdf; ComponentLink3Description: Package Specification; ComponentLink3URL: http://pdfserv.maximintegrated.com/package_dwgs/21-0055.PDF
footprint MAXM-E16+8F_N (SOP, 16-Leads, Body 4.89x3.9mm, Pitch 0.635mm, IPC Medium Density)
footprint MAXM-E16+8F_L (SOP, 16-Leads, Body 4.89x3.9mm, Pitch 0.635mm, IPC High Density)
footprint MAXM-E16+8F_M (SOP, 16-Leads, Body 4.89x3.9mm, Pitch 0.635mm, IPC Low Density)
pins: 1 GND (power) "Ground", 2 IN (in) "Input Voltage. Bypass IN to GND with a low-ESR ceramic capacitor with a minimum value of 0.1uF.", 3 SENS (in) "Input to Current-Sense Amplifier. Connect the sense resistor between SENS and IN.", 4 SENS (in) "Input to Current-Sense Amplifier. Connect the sense resistor between SENS and IN.", 5 OUT (out) "Switch Output", 6 OUT (out) "Switch Output", 7 SHDN (in) "Active-High Control Input. Drive SHDN low to turn on the device.", 8 GND (power) "Ground", 9 GND (power) "Ground", 10 NC "No Connection. Not internally connected.", 11 OLT (in) "Open-Load Threshold Setting Input. A resistive divider between REF, OLT, and GND sets the open-load current threshold (MAX16913A). For the MAX16913, connect OLT to GND.", 12 REF (out) "+3V Nominal Reference Output. Use a resistive divider between REF, OLT, and ground to set the open-load current threshold (MAX16913A). The output impedance of this voltage regulator is 5k ohm.", 13 AOUT (out) "Current-Monitor Voltage Output. AOUT can be used to measure the load current by means of an external ADC. The output impedance is 5k ohm.", 14 ~{OL} (oc) "Open-Drain Open-Load Indicator Output. O\L\ goes low when the load current is lower than the open-load current threshold, or when there is a short-to-battery fault. Connect O\L\ to a 10k ohm pullup resistor. See Table 1.", 15 ~{SC} (oc) "Open-Drain Short-Circuit Indicator Output. S\C\ goes low when the load current is greater than the short-circuit current threshold or when there is a short-to-battery fault. Connect S\C\ to a 10k ohm pullup resistor. See (See Datasheet)", 16 GND (power) "Ground"

## MAX16913GEE/V+T
designator U?
Remote Antenna Current-Sense Amplifier and Switch, 13 V / V Gain, -40 to 105 degC, 16-Pin SOP (E16+8F), Pb-Free, Tape and Reel; PartNumber: MAX16913GEE/V+T; Bi-Dir. Curr. Sense: No; Gain: 13 V/V; Industry Qualified: Automotive - AECQ100, Automotive - General; DatasheetVersion: Rev. 0; PackageVersion: Rev. K, 04/2012; PackageReference: E16+8F; PackageDescription: 16-Pin Quarter Small-Outline Package, Body 3.9 x 4.89 mm, Pitch 0.635 mm; Supplier 1: Digi-Key; Supplier Part Number 1: MAX16913GEE/V+T-ND; Supplier 2: Mouser; Supplier Part Number 2: 700-MAX16913GEE/V+T; Mounting Technology: Surface Mount; Code_JEDEC: MO-137; ComponentLink1Description: Manufacturer URL; ComponentLink1URL: http://www.maximintegrated.com/; ComponentLink2Description: Datasheet; ComponentLink2URL: http://datasheets.maximintegrated.com/en/ds/MAX16913-MAX16913A.pdf; ComponentLink3Description: Package Specification; ComponentLink3URL: http://pdfserv.maximintegrated.com/package_dwgs/21-0055.PDF
footprint MAXM-E16+8F_N (SOP, 16-Leads, Body 4.89x3.9mm, Pitch 0.635mm, IPC Medium Density)
footprint MAXM-E16+8F_L (SOP, 16-Leads, Body 4.89x3.9mm, Pitch 0.635mm, IPC High Density)
footprint MAXM-E16+8F_M (SOP, 16-Leads, Body 4.89x3.9mm, Pitch 0.635mm, IPC Low Density)
pins: 1 GND (power) "Ground", 2 IN (in) "Input Voltage. Bypass IN to GND with a low-ESR ceramic capacitor with a minimum value of 0.1uF.", 3 SENS (in) "Input to Current-Sense Amplifier. Connect the sense resistor between SENS and IN.", 4 SENS (in) "Input to Current-Sense Amplifier. Connect the sense resistor between SENS and IN.", 5 OUT (out) "Switch Output", 6 OUT (out) "Switch Output", 7 SHDN (in) "Active-High Control Input. Drive SHDN low to turn on the device.", 8 GND (power) "Ground", 9 GND (power) "Ground", 10 NC "No Connection. Not internally connected.", 11 OLT (in) "Open-Load Threshold Setting Input. A resistive divider between REF, OLT, and GND sets the open-load current threshold (MAX16913A). For the MAX16913, connect OLT to GND.", 12 REF (out) "+3V Nominal Reference Output. Use a resistive divider between REF, OLT, and ground to set the open-load current threshold (MAX16913A). The output impedance of this voltage regulator is 5k ohm.", 13 AOUT (out) "Current-Monitor Voltage Output. AOUT can be used to measure the load current by means of an external ADC. The output impedance is 5k ohm.", 14 ~{OL} (oc) "Open-Drain Open-Load Indicator Output. O\L\ goes low when the load current is lower than the open-load current threshold, or when there is a short-to-battery fault. Connect O\L\ to a 10k ohm pullup resistor. See Table 1.", 15 ~{SC} (oc) "Open-Drain Short-Circuit Indicator Output. S\C\ goes low when the load current is greater than the short-circuit current threshold or when there is a short-to-battery fault. Connect S\C\ to a 10k ohm pullup resistor. See (See Datasheet)", 16 GND (power) "Ground"

## MAX34406HETG+
designator U?
Quad Current-Sense Amplifier with Overcurrent Threshold Comparators, 25 V / V Gain, -40 to 85 degC, 24-Pin QFN (T2444+4), Pb-Free; PartNumber: MAX34406HETG+; Bi-Dir. Curr. Sense: No; Gain: 25 V/V, 50 V/V ,100 V/V ,200 V/V; DatasheetVersion: Rev. 1; PackageVersion: Rev. L, 04/2012; PackageReference: T2444+4; PackageDescription: 24-Pin Thin Quad Flatpack, No Leads, Body 4 x 4 mm, Pitch 0.5 mm; Supplier 1: Digi-Key; Supplier Part Number 1: MAX34406HETG+-ND; Supplier 2: Mouser; Supplier Part Number 2: 700-MAX34406HETG+; Mounting Technology: Surface Mount; Code_JEDEC: MO-220; ComponentLink1Description: Manufacturer URL; ComponentLink1URL: http://www.maximintegrated.com/; ComponentLink2Description: Datasheet; ComponentLink2URL: http://datasheets.maximintegrated.com/en/ds/MAX34406.pdf; ComponentLink3Description: Package Specification; ComponentLink3URL: http://pdfserv.maximintegrated.com/package_dwgs/21-0139.PDF
footprint MAXM-T2444+4_N (QFN, 24-Leads, Body 4x3.9mm, Pitch 0.5mm, Thermal Pad 2.54x2.54mm, IPC Medium Density)
footprint MAXM-T2444+4_L (QFN, 24-Leads, Body 4x3.9mm, Pitch 0.5mm, Thermal Pad 2.54x2.54mm, IPC High Density)
footprint MAXM-T2444+4_M (QFN, 24-Leads, Body 4x3.9mm, Pitch 0.5mm, Thermal Pad 2.54x2.54mm, IPC Low Density)
pins: 1 IN1+ (in) "External Sense Resistor Power-Side Connection for Amplifier 1. Bias at this pin also provides the supply voltage for amplifier 1. This pin can be left open circuit if not needed", 2 IN1- (in) "External Sense Resistor Load-Side Connection for Amplifier 1", 3 OUT1 (out) "Output Voltage from Amplifier 1 Proportional to VSENSE. This output is clamped at 6V.", 4 OUT2 (out) "Output Voltage from Amplifier 2 Proportional to VSENSE. This output is clamped at 6V.", 5 IN2- (in) "External Sense Resistor Load-Side Connection for Amplifier 2", 6 IN2+ (in) "External Sense Resistor Power-Side Connection for Amplifier 2. Bias at this pin also provides the supply voltage for amplifier 2. This pin can be left open circuit if not needed.", 7 NC "No Connection. Not internally connected.", 8 NC "No Connection. Not internally connected.", 9 OC1 (hiz) "Overcurrent Threshold Comparator Associated with Amplifier 1. Open-drain output. This output transitions to high impedance during an overcurrent event", 10 OC2 (hiz) "Overcurrent Threshold Comparator Associated with Amplifier 2. Open-drain output. This output transitions to high impedance during an overcurrent event.", 11 OC3 (hiz) "Overcurrent Threshold Comparator Associated with Amplifier 3. Open-drain output. This output transitions to high impedance during an overcurrent event.", 12 OC4 (hiz) "Overcurrent Threshold Comparator Associated with Amplifier 4. Open-drain output. This output transitions to high impedance during an overcurrent event.", 13 IN3+ (in) "External Sense Resistor Power-Side Connection for Amplifier 3. Bias at this pin also provides the supply voltage for amplifier 3. This pin can be left open circuit if not needed.", 14 IN3- (in) "External Sense Resistor Load-Side Connection for Amplifier 3", 15 OUT3 (out) "Output Voltage from Amplifier 3 Proportional to VSENSE. This output is clamped at 6V.", 16 OUT4 (out) "Output Voltage from Amplifier 4 Proportional to VSENSE. This output is clamped at 6V.", 17 IN4- (in) "External Sense Resistor Load-Side Connection for Amplifier 4", 18 IN4+ (in) "External Sense Resistor Power-Side Connection for Amplifier 4. Bias at this pin also provides the supply voltage for amplifier 4. This pin can be left open circuit if not needed.", 19 VDD (power) "Supply Voltage for Reference, Comparators, and Logic. A +2.7V to +5.5V supply. This pin should be decoupled to GND with a 100nF ceramic capacitor.", 20 ENA (in) "SHTDN Enable Input. CMOS digital input. Connect to GND to clear the latch and unconditionally deassert (force low) the SHTDN output. Connect to VDD to enable normal latch operation of the SHTDN output. ENA should be toggled (See Datasheet)", 21 SHTDN (hiz) "Shutdown Output. Open-drain output. This output transitions to high impedance when any of the four overcurrent comparator outputs (OC1 to OC4) are asserted (high impedance) as long as the ENA pin is high. Toggling the ENA (See Datasheet)", 22 CDLY "Shutdown Delay Capacitor. A capacitor (CCDLY) from this pin to GND delays the transition of the SHTDN pin. The delay time can be calculated by the following formula: tDLY = CCDLY x (VDD/10FA). The capacitor connected to CDLY (See Datasheet)", 23 NC "No Connection. Not internally connected.", 24 GND (power) "Ground Reference", 25 EP (power) "Exposed Pad. Connect to ground or leave unconnected."

## MAX34406HETG+T
designator U?
Quad Current-Sense Amplifier with Overcurrent Threshold Comparators, 25 V / V Gain, -40 to 85 degC, 24-Pin QFN (T2444+4), Pb-Free, Tape and Reel; PartNumber: MAX34406HETG+T; Bi-Dir. Curr. Sense: No; Gain: 25 V/V, 50 V/V ,100 V/V ,200 V/V; DatasheetVersion: Rev. 1; PackageVersion: Rev. L, 04/2012; PackageReference: T2444+4; PackageDescription: 24-Pin Thin Quad Flatpack, No Leads, Body 4 x 4 mm, Pitch 0.5 mm; Supplier 1: Digi-Key; Supplier Part Number 1: MAX34406HETG+T-ND; Supplier 2: Mouser; Supplier Part Number 2: 700-MAX34406HETG+T; Mounting Technology: Surface Mount; Code_JEDEC: MO-220; ComponentLink1Description: Manufacturer URL; ComponentLink1URL: http://www.maximintegrated.com/; ComponentLink2Description: Datasheet; ComponentLink2URL: http://datasheets.maximintegrated.com/en/ds/MAX34406.pdf; ComponentLink3Description: Package Specification; ComponentLink3URL: http://pdfserv.maximintegrated.com/package_dwgs/21-0139.PDF
footprint MAXM-T2444+4_N (QFN, 24-Leads, Body 4x3.9mm, Pitch 0.5mm, Thermal Pad 2.54x2.54mm, IPC Medium Density)
footprint MAXM-T2444+4_L (QFN, 24-Leads, Body 4x3.9mm, Pitch 0.5mm, Thermal Pad 2.54x2.54mm, IPC High Density)
footprint MAXM-T2444+4_M (QFN, 24-Leads, Body 4x3.9mm, Pitch 0.5mm, Thermal Pad 2.54x2.54mm, IPC Low Density)
pins: 1 IN1+ (in) "External Sense Resistor Power-Side Connection for Amplifier 1. Bias at this pin also provides the supply voltage for amplifier 1. This pin can be left open circuit if not needed", 2 IN1- (in) "External Sense Resistor Load-Side Connection for Amplifier 1", 3 OUT1 (out) "Output Voltage from Amplifier 1 Proportional to VSENSE. This output is clamped at 6V.", 4 OUT2 (out) "Output Voltage from Amplifier 2 Proportional to VSENSE. This output is clamped at 6V.", 5 IN2- (in) "External Sense Resistor Load-Side Connection for Amplifier 2", 6 IN2+ (in) "External Sense Resistor Power-Side Connection for Amplifier 2. Bias at this pin also provides the supply voltage for amplifier 2. This pin can be left open circuit if not needed.", 7 NC "No Connection. Not internally connected.", 8 NC "No Connection. Not internally connected.", 9 OC1 (hiz) "Overcurrent Threshold Comparator Associated with Amplifier 1. Open-drain output. This output transitions to high impedance during an overcurrent event", 10 OC2 (hiz) "Overcurrent Threshold Comparator Associated with Amplifier 2. Open-drain output. This output transitions to high impedance during an overcurrent event.", 11 OC3 (hiz) "Overcurrent Threshold Comparator Associated with Amplifier 3. Open-drain output. This output transitions to high impedance during an overcurrent event.", 12 OC4 (hiz) "Overcurrent Threshold Comparator Associated with Amplifier 4. Open-drain output. This output transitions to high impedance during an overcurrent event.", 13 IN3+ (in) "External Sense Resistor Power-Side Connection for Amplifier 3. Bias at this pin also provides the supply voltage for amplifier 3. This pin can be left open circuit if not needed.", 14 IN3- (in) "External Sense Resistor Load-Side Connection for Amplifier 3", 15 OUT3 (out) "Output Voltage from Amplifier 3 Proportional to VSENSE. This output is clamped at 6V.", 16 OUT4 (out) "Output Voltage from Amplifier 4 Proportional to VSENSE. This output is clamped at 6V.", 17 IN4- (in) "External Sense Resistor Load-Side Connection for Amplifier 4", 18 IN4+ (in) "External Sense Resistor Power-Side Connection for Amplifier 4. Bias at this pin also provides the supply voltage for amplifier 4. This pin can be left open circuit if not needed.", 19 VDD (power) "Supply Voltage for Reference, Comparators, and Logic. A +2.7V to +5.5V supply. This pin should be decoupled to GND with a 100nF ceramic capacitor.", 20 ENA (in) "SHTDN Enable Input. CMOS digital input. Connect to GND to clear the latch and unconditionally deassert (force low) the SHTDN output. Connect to VDD to enable normal latch operation of the SHTDN output. ENA should be toggled (See Datasheet)", 21 SHTDN (hiz) "Shutdown Output. Open-drain output. This output transitions to high impedance when any of the four overcurrent comparator outputs (OC1 to OC4) are asserted (high impedance) as long as the ENA pin is high. Toggling the ENA (See Datasheet)", 22 CDLY "Shutdown Delay Capacitor. A capacitor (CCDLY) from this pin to GND delays the transition of the SHTDN pin. The delay time can be calculated by the following formula: tDLY = CCDLY x (VDD/10FA). The capacitor connected to CDLY (See Datasheet)", 23 NC "No Connection. Not internally connected.", 24 GND (power) "Ground Reference", 25 EP (power) "Exposed Pad. Connect to ground or leave unconnected."

## MAX34406HETG+TW
designator U?
Quad Current-Sense Amplifier with Overcurrent Threshold Comparators, 25 V / V Gain, -40 to 85 degC, 24-Pin QFN (T2444+4), Pb-Free, Tape and Reel; PartNumber: MAX34406HETG+TW; Bi-Dir. Curr. Sense: No; Gain: 25 V/V, 50 V/V ,100 V/V ,200 V/V; DatasheetVersion: Rev. 1; PackageVersion: Rev. L, 04/2012; PackageReference: T2444+4; PackageDescription: 24-Pin Thin Quad Flatpack, No Leads, Body 4 x 4 mm, Pitch 0.5 mm; Supplier 1: Digi-Key; Supplier Part Number 1: MAX34406HETG+TW-ND; Supplier 2: Mouser; Supplier Part Number 2: 700-MAX34406HETG+TW; Mounting Technology: Surface Mount; Code_JEDEC: MO-220; ComponentLink1Description: Manufacturer URL; ComponentLink1URL: http://www.maximintegrated.com/; ComponentLink2Description: Datasheet; ComponentLink2URL: http://datasheets.maximintegrated.com/en/ds/MAX34406.pdf; ComponentLink3Description: Package Specification; ComponentLink3URL: http://pdfserv.maximintegrated.com/package_dwgs/21-0139.PDF
footprint MAXM-T2444+4_N (QFN, 24-Leads, Body 4x3.9mm, Pitch 0.5mm, Thermal Pad 2.54x2.54mm, IPC Medium Density)
footprint MAXM-T2444+4_L (QFN, 24-Leads, Body 4x3.9mm, Pitch 0.5mm, Thermal Pad 2.54x2.54mm, IPC High Density)
footprint MAXM-T2444+4_M (QFN, 24-Leads, Body 4x3.9mm, Pitch 0.5mm, Thermal Pad 2.54x2.54mm, IPC Low Density)
pins: 1 IN1+ (in) "External Sense Resistor Power-Side Connection for Amplifier 1. Bias at this pin also provides the supply voltage for amplifier 1. This pin can be left open circuit if not needed", 2 IN1- (in) "External Sense Resistor Load-Side Connection for Amplifier 1", 3 OUT1 (out) "Output Voltage from Amplifier 1 Proportional to VSENSE. This output is clamped at 6V.", 4 OUT2 (out) "Output Voltage from Amplifier 2 Proportional to VSENSE. This output is clamped at 6V.", 5 IN2- (in) "External Sense Resistor Load-Side Connection for Amplifier 2", 6 IN2+ (in) "External Sense Resistor Power-Side Connection for Amplifier 2. Bias at this pin also provides the supply voltage for amplifier 2. This pin can be left open circuit if not needed.", 7 NC "No Connection. Not internally connected.", 8 NC "No Connection. Not internally connected.", 9 OC1 (hiz) "Overcurrent Threshold Comparator Associated with Amplifier 1. Open-drain output. This output transitions to high impedance during an overcurrent event", 10 OC2 (hiz) "Overcurrent Threshold Comparator Associated with Amplifier 2. Open-drain output. This output transitions to high impedance during an overcurrent event.", 11 OC3 (hiz) "Overcurrent Threshold Comparator Associated with Amplifier 3. Open-drain output. This output transitions to high impedance during an overcurrent event.", 12 OC4 (hiz) "Overcurrent Threshold Comparator Associated with Amplifier 4. Open-drain output. This output transitions to high impedance during an overcurrent event.", 13 IN3+ (in) "External Sense Resistor Power-Side Connection for Amplifier 3. Bias at this pin also provides the supply voltage for amplifier 3. This pin can be left open circuit if not needed.", 14 IN3- (in) "External Sense Resistor Load-Side Connection for Amplifier 3", 15 OUT3 (out) "Output Voltage from Amplifier 3 Proportional to VSENSE. This output is clamped at 6V.", 16 OUT4 (out) "Output Voltage from Amplifier 4 Proportional to VSENSE. This output is clamped at 6V.", 17 IN4- (in) "External Sense Resistor Load-Side Connection for Amplifier 4", 18 IN4+ (in) "External Sense Resistor Power-Side Connection for Amplifier 4. Bias at this pin also provides the supply voltage for amplifier 4. This pin can be left open circuit if not needed.", 19 VDD (power) "Supply Voltage for Reference, Comparators, and Logic. A +2.7V to +5.5V supply. This pin should be decoupled to GND with a 100nF ceramic capacitor.", 20 ENA (in) "SHTDN Enable Input. CMOS digital input. Connect to GND to clear the latch and unconditionally deassert (force low) the SHTDN output. Connect to VDD to enable normal latch operation of the SHTDN output. ENA should be toggled (See Datasheet)", 21 SHTDN (hiz) "Shutdown Output. Open-drain output. This output transitions to high impedance when any of the four overcurrent comparator outputs (OC1 to OC4) are asserted (high impedance) as long as the ENA pin is high. Toggling the ENA (See Datasheet)", 22 CDLY "Shutdown Delay Capacitor. A capacitor (CCDLY) from this pin to GND delays the transition of the SHTDN pin. The delay time can be calculated by the following formula: tDLY = CCDLY x (VDD/10FA). The capacitor connected to CDLY (See Datasheet)", 23 NC "No Connection. Not internally connected.", 24 GND (power) "Ground Reference", 25 EP (power) "Exposed Pad. Connect to ground or leave unconnected."